# EAGLE library part CREESMDRGBLED (library odd_led)
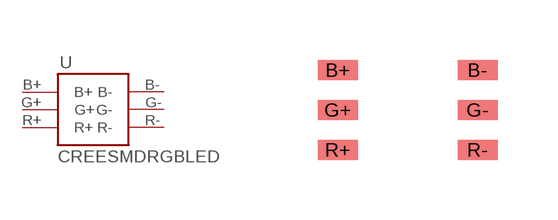
[diagram p0: symbol with the pads of 6PADSMD; footprint 6PADSMD]

Designator prefix -

## CREESMDRGBLED6PADSMD  [6PADSMD]
B+  B+
B-  B-
G+  G+
G-  G-
R+  R+
R-  R-

## Footprint 6PADSMD (pad centres in mm)
smd 1 x 0.5: B+ -1.75,1; B- 1.75,1; G+ -1.75,0; G- 1.75,0; R+ -1.75,-1; R- 1.75,-1